# EAGLE library part SI3865DDV (library Smart fan)
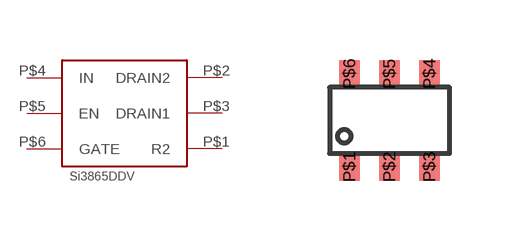
[diagram p0: symbol with the pads of TSOP-6; footprint TSOP-6]

Designator prefix -

## SI3865DDV  [TSOP-6]
P$1  R2
P$2  DRAIN2
P$3  DRAIN1
P$4  IN
P$5  EN
P$6  GATE

## Footprint TSOP-6 (pad centres in mm)
smd 0.508 x 0.7: P$1 -1,-1.162; P$2 0,-1.162; P$3 1,-1.162; P$4 1,1.162; P$5 0,1.162; P$6 -1,1.162